# Altium footprint library Connector - Backplane.PcbLib: 1 footprints
Each footprint in its own frame and in the unit in brackets; x right, y up, seen from the top. Pads: shape width x height; smd on the part's side, far side on the other; paste and mask are expansions set on the pad; w line width, h text height; cw(c..) or ccw(c..) is an arc to the next point about the centre after c.
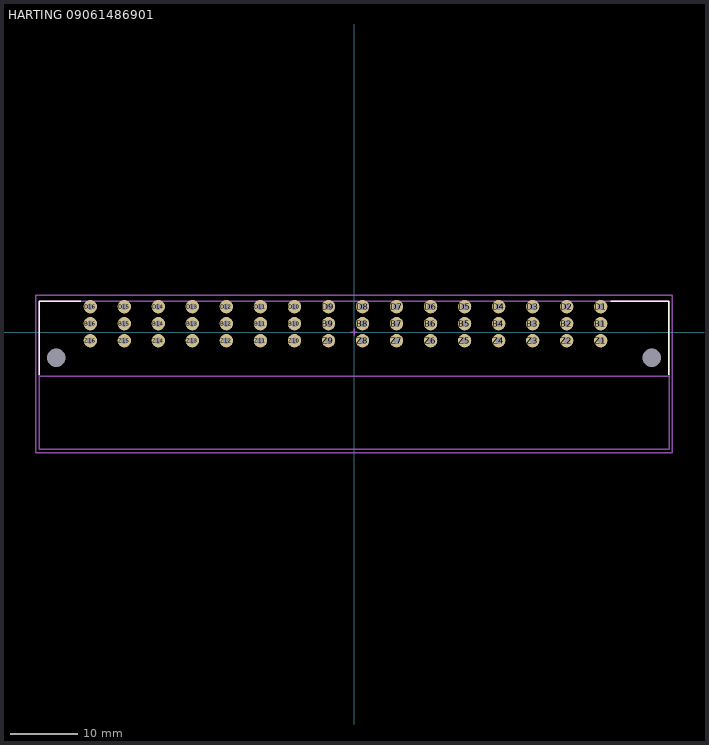
[diagram p0: the footprint, top view; thin cyan lines are the x and y axes]

## HARTING 09061486901 [mm]
height 11.25
pads (50):
  round 2 hole 1: B1(36.83,1.27) B2(31.75,1.27) B3(26.67,1.27) B4(21.59,1.27) B5(16.51,1.27) B6(11.43,1.27) B7(6.35,1.27) B8(1.27,1.27) B9(-3.81,1.27) B10(-8.89,1.27) B11(-13.97,1.27) B12(-19.05,1.27) B13(-24.13,1.27) B14(-29.21,1.27) B15(-34.29,1.27) B16(-39.37,1.27) D1(36.83,3.81) D2(31.75,3.81) D3(26.67,3.81) D4(21.59,3.81) D5(16.51,3.81) D6(11.43,3.81) D7(6.35,3.81) D8(1.27,3.81) D9(-3.81,3.81) D10(-8.89,3.81) D11(-13.97,3.81) D12(-19.05,3.81) D13(-24.13,3.81) D14(-29.21,3.81) D15(-34.29,3.81) D16(-39.37,3.81) Z1(36.83,-1.27) Z2(31.75,-1.27) Z3(26.67,-1.27) Z4(21.59,-1.27) Z5(16.51,-1.27) Z6(11.43,-1.27) Z7(6.35,-1.27) Z8(1.27,-1.27) Z9(-3.81,-1.27) Z10(-8.89,-1.27) Z11(-13.97,-1.27) Z12(-19.05,-1.27) Z13(-24.13,-1.27) Z14(-29.21,-1.27) Z15(-34.29,-1.27) Z16(-39.37,-1.27)
  round 0 hole 2.8 unplated: M(-44.45,-3.81) M(44.45,-3.81)
Top Overlay:
  lines w0.2: -46.99,-6.35 -46.99,4.6 -40.8,4.6 ; 38.3,4.6 46.99,4.6 46.99,-6.35
Mechanical 13:
  lines w0.2: -47,-6.57 -40.37,-6.57 41.23,-6.57 47,-6.57 ; -46.97,-17.51 47.03,-17.51 47.03,4.59 -46.97,4.59 -46.97,-17.51
Mechanical 15:
  lines w0.2: -0.5,0 0.5,0 ; 0,-0.5 0,0.5 ; -47.5,-18 -47.5,5.5 47.5,5.5 47.5,-18 -47.5,-18
3D body "Harting 09061486901.STEP": height 11.25, standoff -3.55, extent -46.97,-17.51 47.03,4.59